# EAGLE library part SIGNPOST_DEBUG_HEADER (library signpost)
The 8 Pin signpost Debug Header
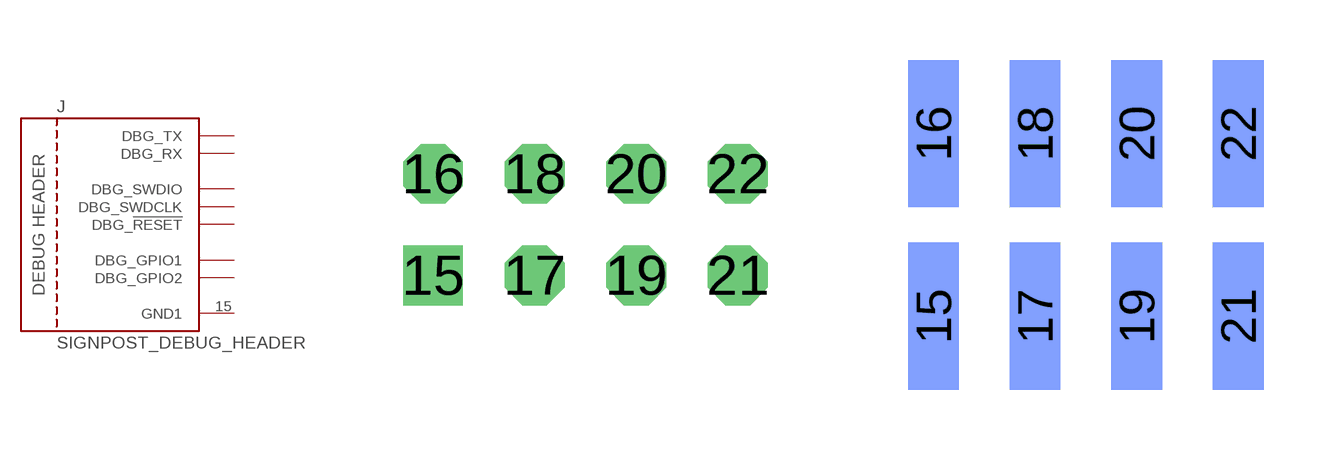
[diagram p31: symbol with the pads of SIGNPOST_DEBUG_HEADER; footprints SIGNPOST_DEBUG_HEADER, SIGNPOST_DEBUG_HEADER_SMT]

Designator prefix J

## SIGNPOST_DEBUG_HEADER (DIGIKEY: S2221EC-04-ND; MANUFACTURER: Sullins Connector; MPN: PRPC004DFBN-RC)  [SIGNPOST_DEBUG_HEADER]
15  GND1
16  DBG_GPIO1
17  DBG_TX
18  DBG_RX
19  DBG_GPIO2
20  DBG_!RESET
21  DBG_SWDCLK
22  DBG_SWDIO

## SIGNPOST_DEBUG_HEADERSMT (DIGIKEY: WM17450-ND; MANUFACTURER: Molex; MPN: 0015912080)  [SIGNPOST_DEBUG_HEADER_SMT]
Pads as for SIGNPOST_DEBUG_HEADER

## Footprint SIGNPOST_DEBUG_HEADER (pad centres in mm)
drill 0.991 square: 15 -3.81,-1.27
drill 0.991 octagon: 16 -3.81,1.27; 17 -1.27,-1.27; 18 -1.27,1.27; 19 1.27,-1.27; 20 1.27,1.27; 21 3.81,-1.27; 22 3.81,1.27

## Footprint SIGNPOST_DEBUG_HEADER_SMT (pad centres in mm)
smd 1.27 x 3.683 bottom: 15 -3.835,-2.342; 16 -3.835,2.23; 17 -1.295,-2.342; 18 -1.295,2.23; 19 1.245,-2.342; 20 1.245,2.23; 21 3.785,-2.342; 22 3.785,2.23